# Altium schematic symbol library MF_Passives.SCHLIB: 20 symbols
Pins are listed as number, name and electrical type; pins without a type are passive.

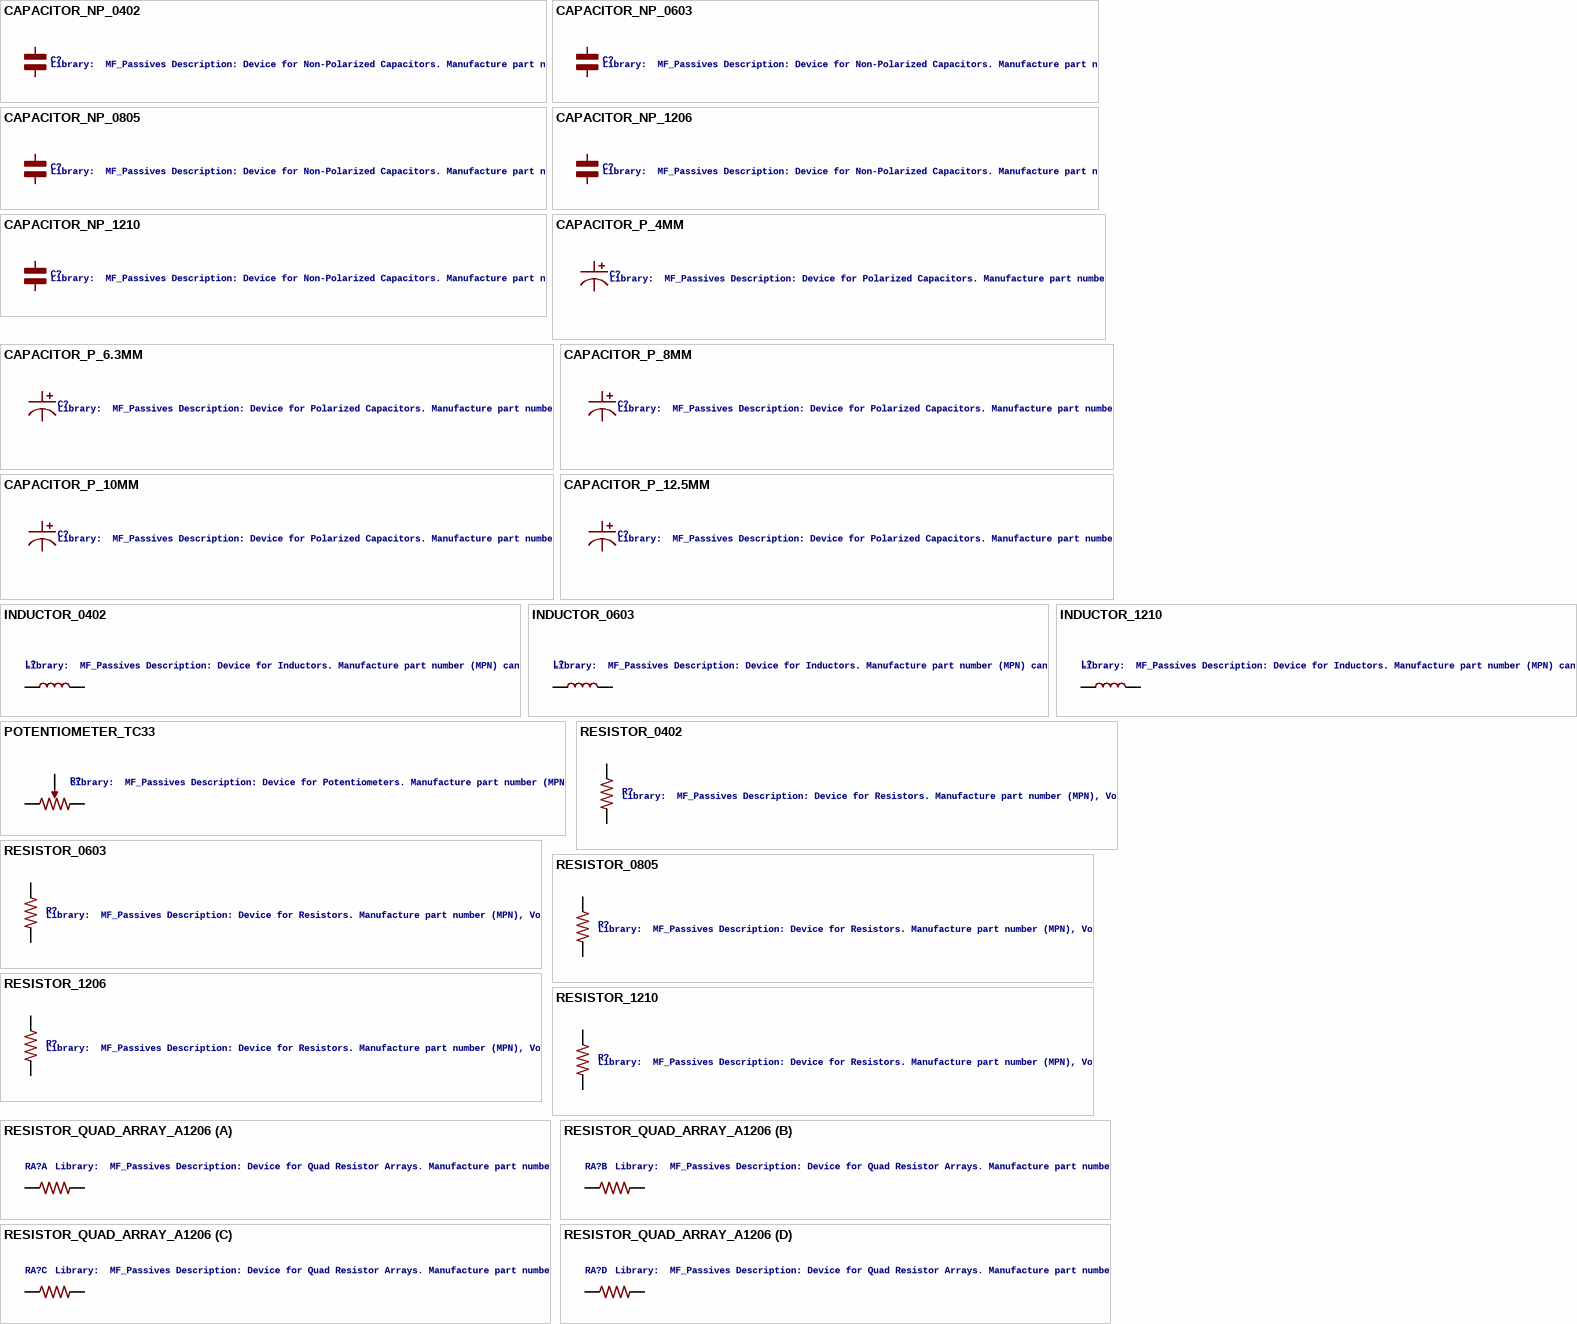
[diagram p0: symbols CAPACITOR_NP_0402 to RESISTOR_QUAD_ARRAY_A1206]

## CAPACITOR_NP_0402
designator C?, comment Library:  MF_Passives Description: Device for Non-Polarized Capacitors. Manufacture part number (MPN) can be added via Attributes. Check https://factory.macrofab.com/parts for the house parts list.
GateName_1: G$1; SymbolName_1: CAPACITOR_NP; DeviceName: _0402; POPULATE: 1; LibraryName: MF_Passives; DeviceSetName: CAPACITOR_NP
footprint C0402
pins: P$1, P$2

## CAPACITOR_NP_0603
designator C?, comment Library:  MF_Passives Description: Device for Non-Polarized Capacitors. Manufacture part number (MPN) can be added via Attributes. Check https://factory.macrofab.com/parts for the house parts list.
GateName_1: G$1; SymbolName_1: CAPACITOR_NP; DeviceName: _0603; POPULATE: 1; LibraryName: MF_Passives; DeviceSetName: CAPACITOR_NP
footprint C0603
pins: P$1, P$2

## CAPACITOR_NP_0805
designator C?, comment Library:  MF_Passives Description: Device for Non-Polarized Capacitors. Manufacture part number (MPN) can be added via Attributes. Check https://factory.macrofab.com/parts for the house parts list.
GateName_1: G$1; SymbolName_1: CAPACITOR_NP; DeviceName: _0805; POPULATE: 1; LibraryName: MF_Passives; DeviceSetName: CAPACITOR_NP
footprint C0805
pins: P$1, P$2

## CAPACITOR_NP_1206
designator C?, comment Library:  MF_Passives Description: Device for Non-Polarized Capacitors. Manufacture part number (MPN) can be added via Attributes. Check https://factory.macrofab.com/parts for the house parts list.
GateName_1: G$1; SymbolName_1: CAPACITOR_NP; DeviceName: _1206; POPULATE: 1; LibraryName: MF_Passives; DeviceSetName: CAPACITOR_NP
footprint C1206
pins: P$1, P$2

## CAPACITOR_NP_1210
designator C?, comment Library:  MF_Passives Description: Device for Non-Polarized Capacitors. Manufacture part number (MPN) can be added via Attributes. Check https://factory.macrofab.com/parts for the house parts list.
GateName_1: G$1; SymbolName_1: CAPACITOR_NP; DeviceName: _1210; POPULATE: 1; LibraryName: MF_Passives; DeviceSetName: CAPACITOR_NP
footprint C1210
pins: P$1, P$2

## CAPACITOR_P_4MM
designator C?, comment Library:  MF_Passives Description: Device for Polarized Capacitors. Manufacture part number (MPN), Voltage Rating, and Tolerance can be added via Attributes. Check https://factory.macrofab.com/parts for the house parts list.
GateName_1: G$1; SymbolName_1: CAPACITOR_P; DeviceName: _4MM; POPULATE: 1; LibraryName: MF_Passives; DeviceSetName: CAPACITOR_P
footprint CP4MM
pins: P$1, P$2

## CAPACITOR_P_6.3MM
designator C?, comment Library:  MF_Passives Description: Device for Polarized Capacitors. Manufacture part number (MPN), Voltage Rating, and Tolerance can be added via Attributes. Check https://factory.macrofab.com/parts for the house parts list.
GateName_1: G$1; SymbolName_1: CAPACITOR_P; DeviceName: _6.3MM; POPULATE: 1; LibraryName: MF_Passives; DeviceSetName: CAPACITOR_P
footprint CP6.3MM
pins: P$1, P$2

## CAPACITOR_P_8MM
designator C?, comment Library:  MF_Passives Description: Device for Polarized Capacitors. Manufacture part number (MPN), Voltage Rating, and Tolerance can be added via Attributes. Check https://factory.macrofab.com/parts for the house parts list.
GateName_1: G$1; SymbolName_1: CAPACITOR_P; DeviceName: _8MM; POPULATE: 1; LibraryName: MF_Passives; DeviceSetName: CAPACITOR_P
footprint CP8MM
pins: P$1, P$2

## CAPACITOR_P_10MM
designator C?, comment Library:  MF_Passives Description: Device for Polarized Capacitors. Manufacture part number (MPN), Voltage Rating, and Tolerance can be added via Attributes. Check https://factory.macrofab.com/parts for the house parts list.
GateName_1: G$1; SymbolName_1: CAPACITOR_P; DeviceName: _10MM; POPULATE: 1; LibraryName: MF_Passives; DeviceSetName: CAPACITOR_P
footprint CP10MM
pins: P$1, P$2

## CAPACITOR_P_12.5MM
designator C?, comment Library:  MF_Passives Description: Device for Polarized Capacitors. Manufacture part number (MPN), Voltage Rating, and Tolerance can be added via Attributes. Check https://factory.macrofab.com/parts for the house parts list.
GateName_1: G$1; SymbolName_1: CAPACITOR_P; DeviceName: _12.5MM; POPULATE: 1; LibraryName: MF_Passives; DeviceSetName: CAPACITOR_P
footprint CP12.5MM
pins: P$1, P$2

## INDUCTOR_0402
designator L?, comment Library:  MF_Passives Description: Device for Inductors. Manufacture part number (MPN) can be added via Attributes. Check https://factory.macrofab.com/parts for the house parts list.
GateName_1: G$1; DeviceName: _0402; POPULATE: 1; SymbolName_1: INDUCTOR; LibraryName: MF_Passives; DeviceSetName: INDUCTOR
footprint L0402
pins: P$1, P$2

## INDUCTOR_0603
designator L?, comment Library:  MF_Passives Description: Device for Inductors. Manufacture part number (MPN) can be added via Attributes. Check https://factory.macrofab.com/parts for the house parts list.
GateName_1: G$1; DeviceName: _0603; POPULATE: 1; SymbolName_1: INDUCTOR; LibraryName: MF_Passives; DeviceSetName: INDUCTOR
footprint L0603
pins: P$1, P$2

## INDUCTOR_1210
designator L?, comment Library:  MF_Passives Description: Device for Inductors. Manufacture part number (MPN) can be added via Attributes. Check https://factory.macrofab.com/parts for the house parts list.
GateName_1: G$1; DeviceName: _1210; SymbolName_1: INDUCTOR; LibraryName: MF_Passives; DeviceSetName: INDUCTOR
footprint L1210
pins: P$1, P$2

## POTENTIOMETER_TC33
designator R?, comment Library:  MF_Passives Description: Device for Potentiometers. Manufacture part number (MPN) can be added via Attributes. Check https://factory.macrofab.com/parts for the house parts list.
HOUSEPART: YES; MPN: MF-RES-TC33X-10K; GateName_1: G$1; DeviceName: _TC33; POPULATE: 1; TOLERANCE: 25%; WATTAGE: 100mW; SymbolName_1: POTENTIOMETER; LibraryName: MF_Passives; DeviceSetName: POTENTIOMETER; URL: https://factory.macrofab.com/part/MF-RES-TC33X-10K
footprint TC33
pins: P$1, P$2, P$3

## RESISTOR_0402
designator R?, comment Library:  MF_Passives Description: Device for Resistors. Manufacture part number (MPN), Voltage, Tolerance, and Wattage Rating can be added via Attributes.  Check https://factory.macrofab.com/parts for the house parts list.
GateName_1: G$1; DeviceName: _0402; POPULATE: 1; SymbolName_1: RESISTOR; LibraryName: MF_Passives; DeviceSetName: RESISTOR
footprint R0402
pins: P$1, P$2

## RESISTOR_0603
designator R?, comment Library:  MF_Passives Description: Device for Resistors. Manufacture part number (MPN), Voltage, Tolerance, and Wattage Rating can be added via Attributes.  Check https://factory.macrofab.com/parts for the house parts list.
GateName_1: G$1; DeviceName: _0603; POPULATE: 1; SymbolName_1: RESISTOR; LibraryName: MF_Passives; DeviceSetName: RESISTOR
footprint R0603
pins: P$1, P$2

## RESISTOR_0805
designator R?, comment Library:  MF_Passives Description: Device for Resistors. Manufacture part number (MPN), Voltage, Tolerance, and Wattage Rating can be added via Attributes.  Check https://factory.macrofab.com/parts for the house parts list.
GateName_1: G$1; DeviceName: _0805; POPULATE: 1; SymbolName_1: RESISTOR; LibraryName: MF_Passives; DeviceSetName: RESISTOR
footprint R0805
pins: P$1, P$2

## RESISTOR_1206
designator R?, comment Library:  MF_Passives Description: Device for Resistors. Manufacture part number (MPN), Voltage, Tolerance, and Wattage Rating can be added via Attributes.  Check https://factory.macrofab.com/parts for the house parts list.
GateName_1: G$1; DeviceName: _1206; POPULATE: 1; SymbolName_1: RESISTOR; LibraryName: MF_Passives; DeviceSetName: RESISTOR
footprint R1206
pins: P$1, P$2

## RESISTOR_1210
designator R?, comment Library:  MF_Passives Description: Device for Resistors. Manufacture part number (MPN), Voltage, Tolerance, and Wattage Rating can be added via Attributes.  Check https://factory.macrofab.com/parts for the house parts list.
GateName_1: G$1; DeviceName: _1210; SymbolName_1: RESISTOR; LibraryName: MF_Passives; DeviceSetName: RESISTOR
footprint R1210
pins: P$1, P$2

## RESISTOR_QUAD_ARRAY_A1206
designator RA?, comment Library:  MF_Passives Description: Device for Quad Resistor Arrays. Manufacture part number (MPN), Voltage, Tolerance, and Wattage Rating can be added via Attributes, Check https://factory.macrofab.com/parts for the house parts list.
HOUSEPART: YES; MPN: MF-RES-ARRAY-10K; GateName_1: G$1; SymbolName_1: RESISTOR_QUAD_ARRAY; GateName_2: G$2; GateName_3: G$3; GateName_4: G$4; DeviceName: _A1206; POPULATE: 1; TOLERANCE: 5%; VOLTAGE: 50V; WATTAGE: 62mW; SymbolName_2: RESISTOR_QUAD_ARRAY; SymbolName_3: RESISTOR_QUAD_ARRAY; SymbolName_4: RESISTOR_QUAD_ARRAY; LibraryName: MF_Passives; DeviceSetName: RESISTOR_QUAD_ARRAY; URL: https://factory.macrofab.com/part/MF-RES-ARRAY-10K
footprint RA1206
part A pins: P$1, P$8 P$2
part B pins: P$2 P$1, P$7 P$2
part C pins: P$3 P$1, P$6 P$2
part D pins: P$4 P$1, P$5 P$2